# Altium footprint library AMS1117-3.3.PcbLib: 1 footprints
Each footprint in its own frame and in the unit in brackets; x right, y up, seen from the top. Pads: shape width x height; smd on the part's side, far side on the other; paste and mask are expansions set on the pad; w line width, h text height; cw(c..) or ccw(c..) is an arc to the next point about the centre after c.
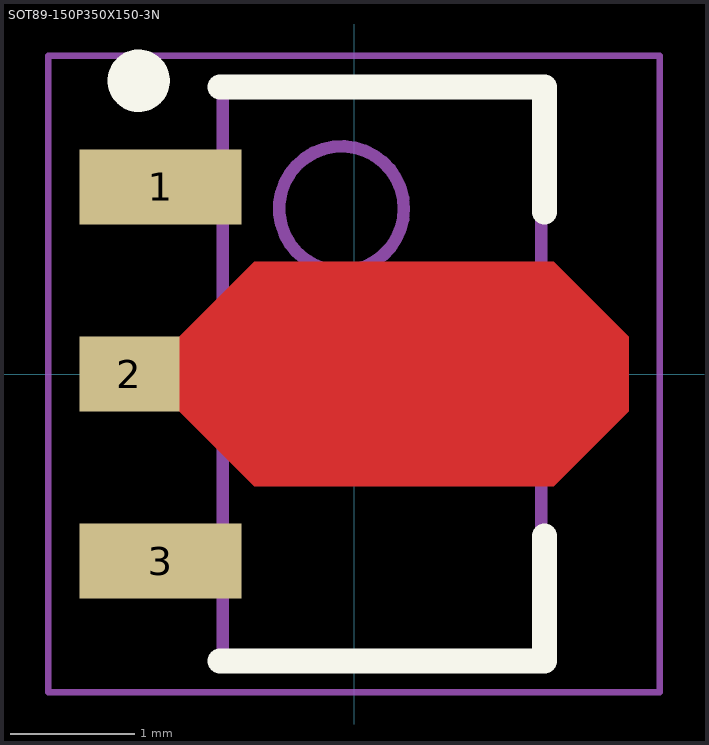
[diagram p0: the footprint, top view; thin cyan lines are the x and y axes]

## SOT89-150P350X150-3N [mm] "SOT89, 3-Leads, Body 4.50x2.50mm, Pitch 1.50mm, Lead Span 3.5mm, IPC Medium Density"
height 1.5
pads (3):
  rect 1.3x0.6 smd: 1(-1.55,1.5) 3(-1.55,-1.5)
  rect 0.8x0.6 smd: 2(-1.8,0)
Top Layer:
  region: -1.4,0.3 -0.8,0.9 1.6,0.9 2.2,0.3 2.2,-0.3 1.6,-0.9 -0.8,-0.9 -1.4,-0.3
Top Overlay:
  circle w0.25: c-1.725,2.35 r0.125
  lines w0.2: -1.075,-2.3 1.525,-2.3 1.525,-1.3 ; -1.075,2.3 1.525,2.3 1.525,1.3
Mechanical 13:
  circle w0.1: c-0.1,1.325 r0.5
  lines w0.05: -2.45,-2.55 2.45,-2.55 2.45,2.55 -2.45,2.55 -2.45,-2.55
  lines w0.1: -0.275,0 0.725,0 ; 0.225,-0.5 0.225,0.5 ; -1.05,-2.275 1.5,-2.275 1.5,2.275 -1.05,2.275 -1.05,-2.275
3D body "SOT89-150P350X150-3N.step": height 1.5, standoff 0, extent -2.025,-2.272 2.225,2.272